# Altium schematic symbol library MC34063.SchLib: 1 symbol
Pins are listed as number, name and electrical type; pins without a type are passive.

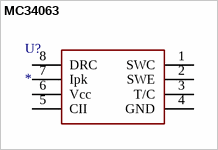
[diagram p0: symbol MC34063]

## MC34063
designator U?
footprint SOIC-8
pins: 1 SWC, 2 SWE, 3 T/C, 4 GND, 5 CII, 6 Vcc, 7 Ipk, 8 DRC